# Altium schematic symbol library Infineon Transistor & Diode.SchLib: 376 symbols (part 7 of 10)
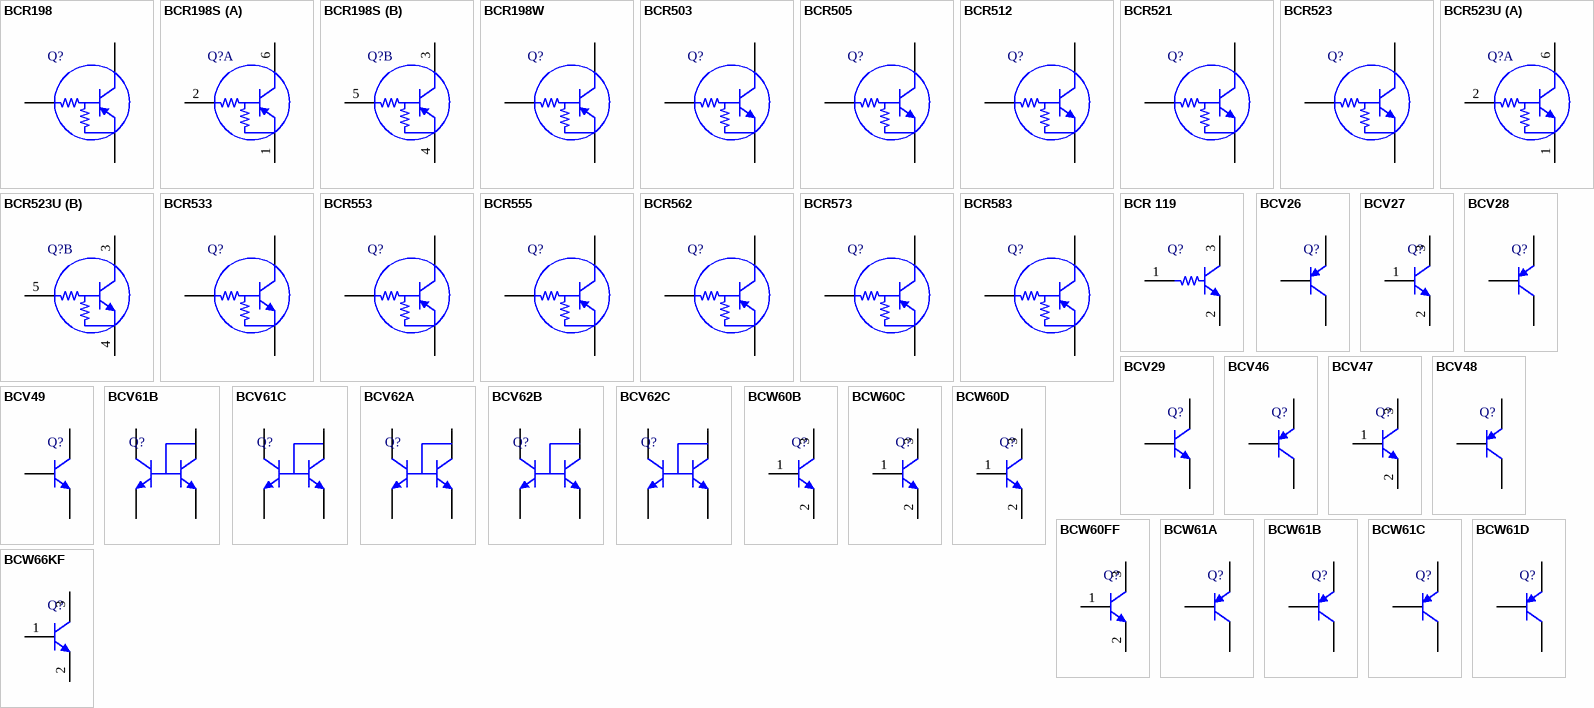
[diagram p16: symbols BCR198 to BCW66KF]

## BCV29
designator Q?
NPN Silicon Darlington Transistor, 30 V VCEO, 500 mA IC, SOT89, Reel, Green; Manufacturer: Infineon; PartNumber: BCV29; fT (typ): 150 MHz; Green: TRUE; hFE (min): 4000; IC: 100 mA; IC (max): 500 mA; ICBO (max): 10 uA; ICM (max): 800 mA; VCBO (max): 40 V; VCE: 5 V; VCEO (max): 30 V; VEBO (max): 10 V; PackageVersion: Apr-08; PackageReference: SOT89 (SC-62); PackageDescription: 3-Pin Small Outline Transistor Package, 4.5 x 2.5 mm Body, 1.5 mm Pitch; Packing: Reel; Polarity: NPN; Mounting Technology: Surface Mount; ComponentLink1Description: Manufacturer URL; ComponentLink1URL: http://www.infineon.com/; ComponentLink2Description: Datasheet; ComponentLink2URL: http://www.infineon.com/dgdl/bcv29_bcv49.pdf?folderId=db3a30431441fb5d011445c30f210183&fileId=db3a30431441fb5d011445c8b0d30186; ComponentLink3Description: Package Specification; ComponentLink3URL: http://www.infineon.com/dgdl/SOT89-Package_Overview.pdf?folderId=db3a30431936bc4b01195371b8363cff&fileId=db3a30431936bc4b0119537ed61d3d22
footprint INF-SOT89_SC-62_N (SOT89, 3-Leads, Body 4.5x2.5mm, Pitch 1.5mm, IPC Medium Density)
footprint INF-SOT89_SC-62_L (SOT89, 3-Leads, Body 4.5x2.5mm, Pitch 1.5mm, IPC High Density)
footprint INF-SOT89_SC-62_M (SOT89, 3-Leads, Body 4.5x2.5mm, Pitch 1.5mm, IPC Low Density)
pins: 1 B, 2 C, 3 E

## BCV46
designator Q?
PNP Silicon Darlington Transistor, 60 V VCEO, 500 mA IC, SOT23, Reel, Green; Manufacturer: Infineon; PartNumber: BCV46; fT (typ): 200 MHz; Green: TRUE; hFE (min): 2000; IC: 100 mA; IC (max): 500 mA; ICBO (max): 10 uA; ICM (max): 800 mA; VCBO (max): 80 V; VCE: 5 V; VCEO (max): 60 V; VEBO (max): 10 V; PackageVersion: Apr-08; PackageReference: SOT23; PackageDescription: 3-Pin Small Outline Transistor Package, 1.3 x 2.9 mm Body, 0.95 mm Pitch; Packing: Reel; Polarity: PNP; Mounting Technology: Surface Mount; ComponentLink1Description: Manufacturer URL; ComponentLink1URL: http://www.infineon.com/; ComponentLink2Description: Datasheet; ComponentLink2URL: http://www.infineon.com/dgdl/bcv26_bcv46.pdf?folderId=db3a30431441fb5d011445c30f210183&fileId=db3a30431441fb5d011445cddad90187; ComponentLink3Description: Package Specification; ComponentLink3URL: http://www.infineon.com/dgdl/SOT23-Package_Overview.pdf?folderId=db3a30431936bc4b0119532290053c66&fileId=db3a30431936bc4b0119533468123c85
footprint INF-SOT23_N (SOT23, 3-Leads, Body 2.9x1.3 mm, Pitch 0.95 mm, IPC Medium Density)
footprint INF-SOT23_L (SOT23, 3-Leads, Body 2.9x1.3 mm, Pitch 0.95 mm, IPC High Density)
footprint INF-SOT23_M (SOT23, 3-Leads, Body 2.9x1.3 mm, Pitch 0.95 mm, IPC Low Density)
pins: 1 B, 2 E, 3 C

## BCV47
designator Q?
NPN Silicon Darlington Transistor, 60 V VCEO, 500 mA IC, SOT23, Reel, Green; Manufacturer: Infineon; PartNumber: BCV47; fT (typ): 170 MHz; Green: TRUE; hFE (min): 2000; IC: 100 mA; IC (max): 500 mA; ICBO (max): 10 uA; ICM (max): 800 mA; VCBO (max): 80 V; VCE: 5 V; VCEO (max): 60 V; VEBO (max): 10 V; PackageVersion: Apr-08; PackageReference: SOT23; PackageDescription: 3-Pin Small Outline Transistor Package, 1.3 x 2.9 mm Body, 0.95 mm Pitch; Packing: Reel; Polarity: NPN; Mounting Technology: Surface Mount; ComponentLink1Description: Manufacturer URL; ComponentLink1URL: http://www.infineon.com/; ComponentLink2Description: Datasheet; ComponentLink2URL: http://www.infineon.com/dgdl/bcv27_bcv47.pdf?folderId=db3a30431441fb5d011445c30f210183&fileId=db3a30431441fb5d011445cf7c3b0188; ComponentLink3Description: Package Specification; ComponentLink3URL: http://www.infineon.com/dgdl/SOT23-Package_Overview.pdf?folderId=db3a30431936bc4b0119532290053c66&fileId=db3a30431936bc4b0119533468123c85
footprint INF-SOT23_N (SOT23, 3-Leads, Body 2.9x1.3 mm, Pitch 0.95 mm, IPC Medium Density)
footprint INF-SOT23_L (SOT23, 3-Leads, Body 2.9x1.3 mm, Pitch 0.95 mm, IPC High Density)
footprint INF-SOT23_M (SOT23, 3-Leads, Body 2.9x1.3 mm, Pitch 0.95 mm, IPC Low Density)
pins: 1 B, 2 E, 3 C

## BCV48
designator Q?
PNP Silicon Darlington Transistor, 60 V VCEO, 500 mA IC, SOT89, Reel, Green; Manufacturer: Infineon; PartNumber: BCV48; fT (typ): 200 MHz; Green: TRUE; hFE (min): 2000; IC: 100 mA; IC (max): 500 mA; ICBO (max): 10 uA; ICM (max): 800 mA; VCBO (max): 80 V; VCE: 5 V; VCEO (max): 60 V; VEBO (max): 10 V; PackageVersion: Apr-08; PackageReference: SOT89 (SC-62); PackageDescription: 3-Pin Small Outline Transistor Package, 4.5 x 2.5 mm Body, 1.5 mm Pitch; Packing: Reel; Polarity: PNP; Mounting Technology: Surface Mount; ComponentLink1Description: Manufacturer URL; ComponentLink1URL: http://www.infineon.com/; ComponentLink2Description: Datasheet; ComponentLink2URL: http://www.infineon.com/dgdl/bcv28_bcv48.pdf?folderId=db3a30431441fb5d011445c30f210183&fileId=db3a30431441fb5d011445c71a9d0185; ComponentLink3Description: Package Specification; ComponentLink3URL: http://www.infineon.com/dgdl/SOT89-Package_Overview.pdf?folderId=db3a30431936bc4b01195371b8363cff&fileId=db3a30431936bc4b0119537ed61d3d22
footprint INF-SOT89_SC-62_N (SOT89, 3-Leads, Body 4.5x2.5mm, Pitch 1.5mm, IPC Medium Density)
footprint INF-SOT89_SC-62_L (SOT89, 3-Leads, Body 4.5x2.5mm, Pitch 1.5mm, IPC High Density)
footprint INF-SOT89_SC-62_M (SOT89, 3-Leads, Body 4.5x2.5mm, Pitch 1.5mm, IPC Low Density)
pins: 1 B, 2 C, 3 E

## BCV49
designator Q?
NPN Silicon Darlington Transistor, 60 V VCEO, 500 mA IC, SOT89, Reel, Green; Manufacturer: Infineon; PartNumber: BCV49; fT (typ): 150 MHz; Green: TRUE; hFE (min): 2000; IC: 100 mA; IC (max): 500 mA; ICBO (max): 10 uA; ICM (max): 800 mA; VCBO (max): 80 V; VCE: 5 V; VCEO (max): 60 V; VEBO (max): 10 V; PackageVersion: Apr-08; PackageReference: SOT89 (SC-62); PackageDescription: 3-Pin Small Outline Transistor Package, 4.5 x 2.5 mm Body, 1.5 mm Pitch; Packing: Reel; Polarity: NPN; Mounting Technology: Surface Mount; ComponentLink1Description: Manufacturer URL; ComponentLink1URL: http://www.infineon.com/; ComponentLink2Description: Datasheet; ComponentLink2URL: http://www.infineon.com/dgdl/bcv29_bcv49.pdf?folderId=db3a30431441fb5d011445c30f210183&fileId=db3a30431441fb5d011445c8b0d30186; ComponentLink3Description: Package Specification; ComponentLink3URL: http://www.infineon.com/dgdl/SOT89-Package_Overview.pdf?folderId=db3a30431936bc4b01195371b8363cff&fileId=db3a30431936bc4b0119537ed61d3d22
footprint INF-SOT89_SC-62_N (SOT89, 3-Leads, Body 4.5x2.5mm, Pitch 1.5mm, IPC Medium Density)
footprint INF-SOT89_SC-62_L (SOT89, 3-Leads, Body 4.5x2.5mm, Pitch 1.5mm, IPC High Density)
footprint INF-SOT89_SC-62_M (SOT89, 3-Leads, Body 4.5x2.5mm, Pitch 1.5mm, IPC Low Density)
pins: 1 B, 2 C, 3 E

## BCV61B
designator Q?
NPN Silicon Double Transistor, 30 V VCEO, 100 mA IC, SOT143-4-1, Reel, Green; Manufacturer: Infineon; PartNumber: BCV61B; fT (typ): 250 MHz; Green: TRUE; IC: 2 mA; IC (max): 100 mA; ICBO (max): 15 nA; ICM (max): 200 mA; Ptot (max): 300 mW; VCBO (max): 30 V; VCE: 5 V; VEBO (max): 6 V; PackageReference: SOT143-4-1; PackageDescription: 4-Pin Small Outline Transistor Package, 1.3 x 2.9 mm Body; Packing: Reel; Polarity: NPN; VCE (max): 5 V; VCEO (max): 30 V; Mounting Technology: Surface Mount; ComponentLink1Description: Manufacturer URL; ComponentLink1URL: http://www.infineon.com/; ComponentLink2Description: Datasheet; ComponentLink2URL: http://www.infineon.com/dgdl/bcv61.pdf?folderId=db3a30431441fb5d0114498f7eab01ce&fileId=db3a30431441fb5d011449d8ff720246; ComponentLink3Description: Package Specification; ComponentLink3URL: http://www.infineon.com/dgdl/SOT143-Package_Overview.pdf?folderId=db3a30431936bc4b011952ce8b1b3bed&fileId=db3a30431936bc4b011952df42203c0c
footprint INF-SOT143-4-1_V (SOT143, 4-Leads, Body 2.9x1.3 mm)
pins: 1 C2, 2 C1, 3 E1, 4 E2

## BCV61C
designator Q?
NPN Silicon Double Transistor, 30 V VCEO, 100 mA IC, SOT143-4-1, Reel, Green; Manufacturer: Infineon; PartNumber: BCV61C; fT (typ): 250 MHz; Green: TRUE; IC: 2 mA; IC (max): 100 mA; ICBO (max): 15 nA; ICM (max): 200 mA; Ptot (max): 300 mW; VCBO (max): 30 V; VCE: 5 V; VEBO (max): 6 V; PackageReference: SOT143-4-1; PackageDescription: 4-Pin Small Outline Transistor Package, 1.3 x 2.9 mm Body; Supplier 1: Newark; Supplier Part Number 1: 25M7679; Supplier 2: Farnell; Supplier Part Number 2: 1056514; Supplier 3: Farnell; Supplier Part Number 3: 1056514RL; Packing: Reel; Polarity: NPN; VCE (max): 5 V; VCEO (max): 30 V; Mounting Technology: Surface Mount; ComponentLink1Description: Manufacturer URL; ComponentLink1URL: http://www.infineon.com/; ComponentLink2Description: Datasheet; ComponentLink2URL: http://www.infineon.com/dgdl/bcv61.pdf?folderId=db3a30431441fb5d0114498f7eab01ce&fileId=db3a30431441fb5d011449d8ff720246; ComponentLink3Description: Package Specification; ComponentLink3URL: http://www.infineon.com/dgdl/SOT143-Package_Overview.pdf?folderId=db3a30431936bc4b011952ce8b1b3bed&fileId=db3a30431936bc4b011952df42203c0c
footprint INF-SOT143-4-1_V (SOT143, 4-Leads, Body 2.9x1.3 mm)
pins: 1 C2, 2 C1, 3 E1, 4 E2

## BCV62A
designator Q?
PNP Silicon Double Transistor, 30 V VCEO, 100 mA IC, SOT143-4-1, Reel, Green; Manufacturer: Infineon; PartNumber: BCV62A; fT (typ): 250 MHz; Green: TRUE; IC: 2 mA; IC (max): 100 mA; ICBO (max): 15 nA; ICM (max): 200 mA; Ptot (max): 300 mW; VCBO (max): 30 V; VCE: 5 V; VEBO (max): 6 V; PackageReference: SOT143-4-1; PackageDescription: 4-Pin Small Outline Transistor Package, 1.3 x 2.9 mm Body; Packing: Reel; Polarity: PNP; VCE (max): 5 V; VCEO (max): 30 V; Mounting Technology: Surface Mount; ComponentLink1Description: Manufacturer URL; ComponentLink1URL: http://www.infineon.com/; ComponentLink2Description: Datasheet; ComponentLink2URL: http://www.infineon.com/dgdl/bcv62.pdf?folderId=db3a30431441fb5d0114498f7eab01ce&fileId=db3a30431441fb5d011449a5795f0230; ComponentLink3Description: Package Specification; ComponentLink3URL: http://www.infineon.com/dgdl/SOT143-Package_Overview.pdf?folderId=db3a30431936bc4b011952ce8b1b3bed&fileId=db3a30431936bc4b011952df42203c0c
footprint INF-SOT143-4-1_V (SOT143, 4-Leads, Body 2.9x1.3 mm)
pins: 1 C2, 2 C1, 3 E1, 4 E2

## BCV62B
designator Q?
PNP Silicon Double Transistor, 30 V VCEO, 100 mA IC, SOT143-4-1, Reel, Green; Manufacturer: Infineon; PartNumber: BCV62B; fT (typ): 250 MHz; Green: TRUE; IC: 2 mA; IC (max): 100 mA; ICBO (max): 15 nA; ICM (max): 200 mA; Ptot (max): 300 mW; VCBO (max): 30 V; VCE: 5 V; VEBO (max): 6 V; PackageReference: SOT143-4-1; PackageDescription: 4-Pin Small Outline Transistor Package, 1.3 x 2.9 mm Body; Packing: Reel; Polarity: PNP; VCE (max): 5 V; VCEO (max): 30 V; Mounting Technology: Surface Mount; ComponentLink1Description: Manufacturer URL; ComponentLink1URL: http://www.infineon.com/; ComponentLink2Description: Datasheet; ComponentLink2URL: http://www.infineon.com/dgdl/bcv62.pdf?folderId=db3a30431441fb5d0114498f7eab01ce&fileId=db3a30431441fb5d011449a5795f0230; ComponentLink3Description: Package Specification; ComponentLink3URL: http://www.infineon.com/dgdl/SOT143-Package_Overview.pdf?folderId=db3a30431936bc4b011952ce8b1b3bed&fileId=db3a30431936bc4b011952df42203c0c
footprint INF-SOT143-4-1_V (SOT143, 4-Leads, Body 2.9x1.3 mm)
pins: 1 C2, 2 C1, 3 E1, 4 E2

## BCV62C
designator Q?
PNP Silicon Double Transistor, 30 V VCEO, 100 mA IC, SOT143-4-1, Reel, Green; Manufacturer: Infineon; PartNumber: BCV62C; fT (typ): 250 MHz; Green: TRUE; IC: 100 mA; ICBO (max): 15 nA; ICM (max): 200 mA; Ptot (max): 300 mV; VCBO (max): 30 V; VCE: 5 V; VEBO (max): 6 V; PackageReference: SOT143-4-1; PackageDescription: 4-Pin Small Outline Transistor Package, 1.3 x 2.9 mm Body; Supplier 1: Newark; Supplier Part Number 1: 25M7681; Supplier 2: Farnell; Supplier Part Number 2: 1056515RL; Supplier 3: Farnell; Supplier Part Number 3: 1056515; IC (max): 100 mA; Packing: Reel; Polarity: PNP; VCE (max): 5 V; VCEO (max): 30 V; Mounting Technology: Surface Mount; ComponentLink1Description: Manufacturer URL; ComponentLink1URL: http://www.infineon.com/; ComponentLink2Description: Datasheet; ComponentLink2URL: http://www.infineon.com/dgdl/bcv62.pdf?folderId=db3a30431441fb5d0114498f7eab01ce&fileId=db3a30431441fb5d011449a5795f0230; ComponentLink3Description: Package Specification; ComponentLink3URL: http://www.infineon.com/dgdl/SOT143-Package_Overview.pdf?folderId=db3a30431936bc4b011952ce8b1b3bed&fileId=db3a30431936bc4b011952df42203c0c
footprint INF-SOT143-4-1_V (SOT143, 4-Leads, Body 2.9x1.3 mm)
pins: 1 C2, 2 C1, 3 E1, 4 E2

## BCW60B
designator Q?
NPN Silicon AF Transistor, 32 V VCEO, 100 mA IC, SOT23, Reel, Green; Manufacturer: Infineon; PartNumber: BCW60B; F (typ): 2 dB; fT (typ): 250 MHz; Green: TRUE; IBM (max): 200 mA; IC (max): 100 mA; ICBO (max): 20 nA; Ptot (max): 330 mW; VCBO (max): 32 V; VEBO (max): 6 V; PackageVersion: Apr-08; PackageReference: SOT23; PackageDescription: 3-Pin Small Outline Transistor Package, 1.3 x 2.9 mm Body, 0.95 mm Pitch; ICM (max): 200 mA; Packing: Reel; Polarity: NPN; VCEO (max): 32 V; Mounting Technology: Surface Mount; ComponentLink1Description: Manufacturer URL; ComponentLink1URL: http://www.infineon.com/; ComponentLink2Description: Datasheet; ComponentLink2URL: http://www.infineon.com/dgdl/bcw60_bcx70.pdf?folderId=db3a30431f848401011fcbf2ab4c04c4&fileId=db3a30432f91014f012fb516e6041665; ComponentLink3Description: Package Specification; ComponentLink3URL: http://www.infineon.com/dgdl/SOT23-Package_Overview.pdf?folderId=db3a30431936bc4b0119532290053c66&fileId=db3a30431936bc4b0119533468123c85
footprint INF-SOT23_N (SOT23, 3-Leads, Body 2.9x1.3 mm, Pitch 0.95 mm, IPC Medium Density)
footprint INF-SOT23_L (SOT23, 3-Leads, Body 2.9x1.3 mm, Pitch 0.95 mm, IPC High Density)
footprint INF-SOT23_M (SOT23, 3-Leads, Body 2.9x1.3 mm, Pitch 0.95 mm, IPC Low Density)
pins: 1 B, 2 E, 3 C

## BCW60C
designator Q?
NPN Silicon AF Transistor, 32 V VCEO, 100 mA IC, SOT23, Reel, Green; Manufacturer: Infineon; PartNumber: BCW60C; F (typ): 2 dB; fT (typ): 250 MHz; Green: TRUE; IBM (max): 200 mA; IC (max): 100 mA; ICBO (max): 20 nA; Ptot (max): 330 mW; VCBO (max): 32 V; VEBO (max): 6 V; PackageVersion: Apr-08; PackageReference: SOT23; PackageDescription: 3-Pin Small Outline Transistor Package, 1.3 x 2.9 mm Body, 0.95 mm Pitch; Supplier 1: Arrow; Supplier Part Number 1: SwUuOLYa2CQ6oFX7c6wWiErjUMZPc1hrDRDOGt4e6VM; ICM (max): 200 mA; Packing: Reel; Polarity: NPN; VCEO (max): 32 V; Mounting Technology: Surface Mount; ComponentLink1Description: Manufacturer URL; ComponentLink1URL: http://www.infineon.com/; ComponentLink2Description: Datasheet; ComponentLink2URL: http://www.infineon.com/dgdl/bcw60_bcx70.pdf?folderId=db3a30431f848401011fcbf2ab4c04c4&fileId=db3a30432f91014f012fb516e6041665; ComponentLink3Description: Package Specification; ComponentLink3URL: http://www.infineon.com/dgdl/SOT23-Package_Overview.pdf?folderId=db3a30431936bc4b0119532290053c66&fileId=db3a30431936bc4b0119533468123c85
footprint INF-SOT23_N (SOT23, 3-Leads, Body 2.9x1.3 mm, Pitch 0.95 mm, IPC Medium Density)
footprint INF-SOT23_L (SOT23, 3-Leads, Body 2.9x1.3 mm, Pitch 0.95 mm, IPC High Density)
footprint INF-SOT23_M (SOT23, 3-Leads, Body 2.9x1.3 mm, Pitch 0.95 mm, IPC Low Density)
pins: 1 B, 2 E, 3 C

## BCW60D
designator Q?
NPN Silicon AF Transistor, 32 V VCEO, 100 mA IC, SOT23, Reel, Green; Manufacturer: Infineon; PartNumber: BCW60D; F (typ): 2 dB; fT (typ): 250 MHz; Green: TRUE; IBM (max): 200 mA; IC (max): 100 mA; ICBO (max): 20 nA; Ptot (max): 330 mW; VCBO (max): 32 V; VEBO (max): 6 V; PackageVersion: Apr-08; PackageReference: SOT23; PackageDescription: 3-Pin Small Outline Transistor Package, 1.3 x 2.9 mm Body, 0.95 mm Pitch; ICM (max): 200 mA; Packing: Reel; Polarity: NPN; VCEO (max): 32 V; Mounting Technology: Surface Mount; ComponentLink1Description: Manufacturer URL; ComponentLink1URL: http://www.infineon.com/; ComponentLink2Description: Datasheet; ComponentLink2URL: http://www.infineon.com/dgdl/bcw60_bcx70.pdf?folderId=db3a30431f848401011fcbf2ab4c04c4&fileId=db3a30432f91014f012fb516e6041665; ComponentLink3Description: Package Specification; ComponentLink3URL: http://www.infineon.com/dgdl/SOT23-Package_Overview.pdf?folderId=db3a30431936bc4b0119532290053c66&fileId=db3a30431936bc4b0119533468123c85
footprint INF-SOT23_N (SOT23, 3-Leads, Body 2.9x1.3 mm, Pitch 0.95 mm, IPC Medium Density)
footprint INF-SOT23_L (SOT23, 3-Leads, Body 2.9x1.3 mm, Pitch 0.95 mm, IPC High Density)
footprint INF-SOT23_M (SOT23, 3-Leads, Body 2.9x1.3 mm, Pitch 0.95 mm, IPC Low Density)
pins: 1 B, 2 E, 3 C

## BCW60FF
designator Q?
NPN Silicon AF Transistor, 32 V VCEO, 100 mA IC, SOT23, Reel, Green; Manufacturer: Infineon; PartNumber: BCW60FF; F (typ): 1 dB; fT (typ): 250 MHz; Green: TRUE; IC: 2 mA; IC (max): 100 mA; ICBO (max): 20 nA; ICM (max): 200 mA; VCBO (max): 32 V; VCE: 5 V; VEBO (max): 6 V; PackageVersion: Apr-08; PackageReference: SOT23; PackageDescription: 3-Pin Small Outline Transistor Package, 1.3 x 2.9 mm Body, 0.95 mm Pitch; Supplier 1: Mouser; Supplier Part Number 1: N/A; Packing: Reel; Polarity: NPN; VCE (max): 5 V; VCEO (max): 32 V; Mounting Technology: Surface Mount; ComponentLink1Description: Manufacturer URL; ComponentLink1URL: http://www.infineon.com/; ComponentLink2Description: Datasheet; ComponentLink2URL: http://www.infineon.com/dgdl/bcw60_bcx70.pdf?folderId=db3a30431f848401011fcbf2ab4c04c4&fileId=db3a30432f91014f012fb516e6041665; ComponentLink3Description: Package Specification; ComponentLink3URL: http://www.infineon.com/dgdl/SOT23-Package_Overview.pdf?folderId=db3a30431936bc4b0119532290053c66&fileId=db3a30431936bc4b0119533468123c85
footprint INF-SOT23_N (SOT23, 3-Leads, Body 2.9x1.3 mm, Pitch 0.95 mm, IPC Medium Density)
footprint INF-SOT23_L (SOT23, 3-Leads, Body 2.9x1.3 mm, Pitch 0.95 mm, IPC High Density)
footprint INF-SOT23_M (SOT23, 3-Leads, Body 2.9x1.3 mm, Pitch 0.95 mm, IPC Low Density)
pins: 1 B, 2 E, 3 C

## BCW61A
designator Q?
PNP Silicon AF Transistor, 32 V VCEO, 100 mA IC, SOT23, Reel, Green; Manufacturer: Infineon; PartNumber: BCW61A; fT (typ): 250 MHz; Green: TRUE; IBM (max): 200 mA; IC (max): 100 mA; ICBO (max): 20 nA; Ptot (max): 330 mW; VCBO (max): 32 V; VEBO (max): 5 V; PackageVersion: Apr-08; PackageReference: SOT23; PackageDescription: 3-Pin Small Outline Transistor Package, 1.3 x 2.9 mm Body, 0.95 mm Pitch; Supplier 1: Mouser; Supplier Part Number 1: N/A; ICM (max): 200 mA; Packing: Reel; Polarity: PNP; VCEO (max): 32 V; Mounting Technology: Surface Mount; ComponentLink1Description: Manufacturer URL; ComponentLink1URL: http://www.infineon.com/; ComponentLink2Description: Datasheet; ComponentLink2URL: http://www.infineon.com/dgdl/bcw61_bcx71.pdf?folderId=db3a304314dca389011541d30fa21656&fileId=db3a304314dca3890115422f2cbc173b; ComponentLink3Description: Package Specification; ComponentLink3URL: http://www.infineon.com/dgdl/SOT23-Package_Overview.pdf?folderId=db3a30431936bc4b0119532290053c66&fileId=db3a30431936bc4b0119533468123c85
footprint INF-SOT23_N (SOT23, 3-Leads, Body 2.9x1.3 mm, Pitch 0.95 mm, IPC Medium Density)
footprint INF-SOT23_L (SOT23, 3-Leads, Body 2.9x1.3 mm, Pitch 0.95 mm, IPC High Density)
footprint INF-SOT23_M (SOT23, 3-Leads, Body 2.9x1.3 mm, Pitch 0.95 mm, IPC Low Density)
pins: 1 B, 2 E, 3 C

## BCW61B
designator Q?
PNP Silicon AF Transistor, 32 V VCEO, 100 mA IC, SOT23, Reel, Green; Manufacturer: Infineon; PartNumber: BCW61B; fT (typ): 250 MHz; Green: TRUE; IBM (max): 200 mA; IC (max): 100 mA; ICBO (max): 20 nA; Ptot (max): 330 mW; VCBO (max): 32 V; VEBO (max): 5 V; PackageVersion: Apr-08; PackageReference: SOT23; PackageDescription: 3-Pin Small Outline Transistor Package, 1.3 x 2.9 mm Body, 0.95 mm Pitch; ICM (max): 200 mA; Packing: Reel; Polarity: PNP; VCEO (max): 32 V; Mounting Technology: Surface Mount; ComponentLink1Description: Manufacturer URL; ComponentLink1URL: http://www.infineon.com/; ComponentLink2Description: Datasheet; ComponentLink2URL: http://www.infineon.com/dgdl/bcw61_bcx71.pdf?folderId=db3a304314dca389011541d30fa21656&fileId=db3a304314dca3890115422f2cbc173b; ComponentLink3Description: Package Specification; ComponentLink3URL: http://www.infineon.com/dgdl/SOT23-Package_Overview.pdf?folderId=db3a30431936bc4b0119532290053c66&fileId=db3a30431936bc4b0119533468123c85
footprint INF-SOT23_N (SOT23, 3-Leads, Body 2.9x1.3 mm, Pitch 0.95 mm, IPC Medium Density)
footprint INF-SOT23_L (SOT23, 3-Leads, Body 2.9x1.3 mm, Pitch 0.95 mm, IPC High Density)
footprint INF-SOT23_M (SOT23, 3-Leads, Body 2.9x1.3 mm, Pitch 0.95 mm, IPC Low Density)
pins: 1 B, 2 E, 3 C

## BCW61C
designator Q?
PNP Silicon AF Transistor, 32 V VCEO, 100 mA IC, SOT23, Reel, Green; Manufacturer: Infineon; PartNumber: BCW61C; fT (typ): 250 MHz; Green: TRUE; IBM (max): 200 mA; IC (max): 100 mA; ICBO (max): 20 nA; Ptot (max): 330 mW; VCBO (max): 32 V; VEBO (max): 5 V; PackageVersion: Apr-08; PackageReference: SOT23; PackageDescription: 3-Pin Small Outline Transistor Package, 1.3 x 2.9 mm Body, 0.95 mm Pitch; ICM (max): 200 mA; Packing: Reel; Polarity: PNP; VCEO (max): 32 V; Mounting Technology: Surface Mount; ComponentLink1Description: Manufacturer URL; ComponentLink1URL: http://www.infineon.com/; ComponentLink2Description: Datasheet; ComponentLink2URL: http://www.infineon.com/dgdl/bcw61_bcx71.pdf?folderId=db3a304314dca389011541d30fa21656&fileId=db3a304314dca3890115422f2cbc173b; ComponentLink3Description: Package Specification; ComponentLink3URL: http://www.infineon.com/dgdl/SOT23-Package_Overview.pdf?folderId=db3a30431936bc4b0119532290053c66&fileId=db3a30431936bc4b0119533468123c85
footprint INF-SOT23_N (SOT23, 3-Leads, Body 2.9x1.3 mm, Pitch 0.95 mm, IPC Medium Density)
footprint INF-SOT23_L (SOT23, 3-Leads, Body 2.9x1.3 mm, Pitch 0.95 mm, IPC High Density)
footprint INF-SOT23_M (SOT23, 3-Leads, Body 2.9x1.3 mm, Pitch 0.95 mm, IPC Low Density)
pins: 1 B, 2 E, 3 C

## BCW61D
designator Q?
PNP Silicon AF Transistor, 32 V VCEO, 100 mA IC, SOT23, Reel, Green; Manufacturer: Infineon; PartNumber: BCW61D; fT (typ): 250 MHz; Green: TRUE; IBM (max): 200 mA; IC (max): 100 mA; ICBO (max): 20 nA; Ptot (max): 330 mW; VCBO (max): 32 V; VEBO (max): 5 V; PackageVersion: Apr-08; PackageReference: SOT23; PackageDescription: 3-Pin Small Outline Transistor Package, 1.3 x 2.9 mm Body, 0.95 mm Pitch; ICM (max): 200 mA; Packing: Reel; Polarity: PNP; VCEO (max): 32 V; Mounting Technology: Surface Mount; ComponentLink1Description: Manufacturer URL; ComponentLink1URL: http://www.infineon.com/; ComponentLink2Description: Datasheet; ComponentLink2URL: http://www.infineon.com/dgdl/bcw61_bcx71.pdf?folderId=db3a304314dca389011541d30fa21656&fileId=db3a304314dca3890115422f2cbc173b; ComponentLink3Description: Package Specification; ComponentLink3URL: http://www.infineon.com/dgdl/SOT23-Package_Overview.pdf?folderId=db3a30431936bc4b0119532290053c66&fileId=db3a30431936bc4b0119533468123c85
footprint INF-SOT23_N (SOT23, 3-Leads, Body 2.9x1.3 mm, Pitch 0.95 mm, IPC Medium Density)
footprint INF-SOT23_L (SOT23, 3-Leads, Body 2.9x1.3 mm, Pitch 0.95 mm, IPC High Density)
footprint INF-SOT23_M (SOT23, 3-Leads, Body 2.9x1.3 mm, Pitch 0.95 mm, IPC Low Density)
pins: 1 B, 2 E, 3 C

## BCW66KF
designator Q?
NPN Silicon AF Transistor, 45 V VCEO, 800 mA IC, SOT23, Reel, Green; Manufacturer: Infineon; PartNumber: BCW66KF; fT (typ): 170 MHz; Green: TRUE; IBM (max): 200 mA; IC: 100 mA; IC (max): 800 mA; ICBO (max): 20 nA; ICM (max): 1,000 mA; Ptot (max): 500 mW; VCBO (max): 75 V; VCE: 1 V; VCEO (max): 45 V; VEBO (max): 5 V; PackageVersion: Apr-08; PackageReference: SOT23; PackageDescription: 3-Pin Small Outline Transistor Package, 1.3 x 2.9 mm Body, 0.95 mm Pitch; Supplier 1: Mouser; Supplier Part Number 1: N/A; Packing: Reel; Polarity: NPN; Mounting Technology: Surface Mount; ComponentLink1Description: Manufacturer URL; ComponentLink1URL: http://www.infineon.com/; ComponentLink2Description: Datasheet; ComponentLink2URL: http://www.infineon.com/dgdl/bcw66k.pdf?folderId=db3a304314dca389011545f4eb561884&fileId=db3a304314dca389011547504ebe1a07; ComponentLink3Description: Package Specification; ComponentLink3URL: http://www.infineon.com/dgdl/SOT23-Package_Overview.pdf?folderId=db3a30431936bc4b0119532290053c66&fileId=db3a30431936bc4b0119533468123c85
footprint INF-SOT23_N (SOT23, 3-Leads, Body 2.9x1.3 mm, Pitch 0.95 mm, IPC Medium Density)
footprint INF-SOT23_L (SOT23, 3-Leads, Body 2.9x1.3 mm, Pitch 0.95 mm, IPC High Density)
footprint INF-SOT23_M (SOT23, 3-Leads, Body 2.9x1.3 mm, Pitch 0.95 mm, IPC Low Density)
pins: 1 B, 2 E, 3 C

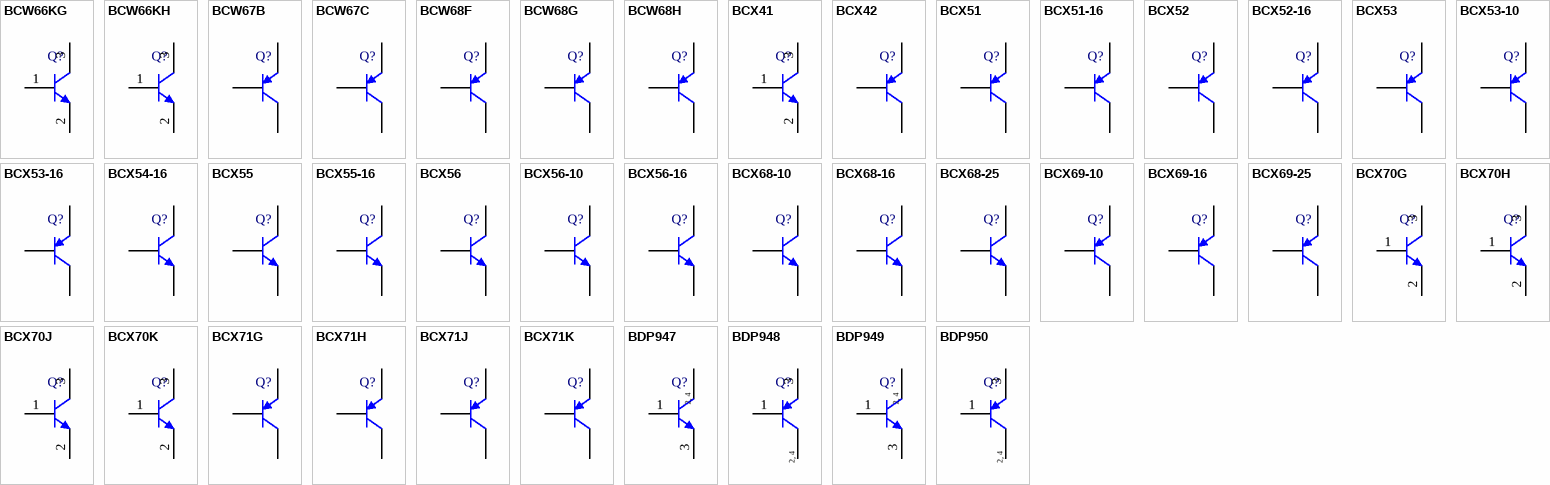
[diagram p7: symbols BCW66KG to BDP950]

## BCW66KG
designator Q?
NPN Silicon AF Transistor, 45 V VCEO, 800 mA IC, SOT23, Reel, Green; Manufacturer: Infineon; PartNumber: BCW66KG; fT (typ): 170 MHz; Green: TRUE; IBM (max): 200 mA; IC: 100 mA; IC (max): 800 mA; ICBO (max): 20 nA; ICM (max): 1,000 mA; Ptot (max): 500 mW; VCBO (max): 75 V; VCE: 1 V; VCEO (max): 45 V; VEBO (max): 5 V; PackageVersion: Apr-08; PackageReference: SOT23; PackageDescription: 3-Pin Small Outline Transistor Package, 1.3 x 2.9 mm Body, 0.95 mm Pitch; Supplier 1: Mouser; Supplier Part Number 1: N/A; Packing: Reel; Polarity: NPN; Mounting Technology: Surface Mount; ComponentLink1Description: Manufacturer URL; ComponentLink1URL: http://www.infineon.com/; ComponentLink2Description: Datasheet; ComponentLink2URL: http://www.infineon.com/dgdl/bcw66k.pdf?folderId=db3a304314dca389011545f4eb561884&fileId=db3a304314dca389011547504ebe1a07; ComponentLink3Description: Package Specification; ComponentLink3URL: http://www.infineon.com/dgdl/SOT23-Package_Overview.pdf?folderId=db3a30431936bc4b0119532290053c66&fileId=db3a30431936bc4b0119533468123c85
footprint INF-SOT23_N (SOT23, 3-Leads, Body 2.9x1.3 mm, Pitch 0.95 mm, IPC Medium Density)
footprint INF-SOT23_L (SOT23, 3-Leads, Body 2.9x1.3 mm, Pitch 0.95 mm, IPC High Density)
footprint INF-SOT23_M (SOT23, 3-Leads, Body 2.9x1.3 mm, Pitch 0.95 mm, IPC Low Density)
pins: 1 B, 2 E, 3 C

## BCW66KH
designator Q?
NPN Silicon AF Transistor, 45 V VCEO, 800 mA IC, SOT23, Reel, Green; Manufacturer: Infineon; PartNumber: BCW66KH; fT (typ): 170 MHz; Green: TRUE; IBM (max): 200 mA; IC: 100 mA; IC (max): 800 mA; ICBO (max): 20 nA; ICM (max): 1,000 mA; Ptot (max): 500 mW; VCBO (max): 75 V; VCE: 1 V; VCEO (max): 45 V; VEBO (max): 5 V; PackageVersion: Apr-08; PackageReference: SOT23; PackageDescription: 3-Pin Small Outline Transistor Package, 1.3 x 2.9 mm Body, 0.95 mm Pitch; Supplier 1: Mouser; Supplier Part Number 1: N/A; Packing: Reel; Polarity: NPN; Mounting Technology: Surface Mount; ComponentLink1Description: Manufacturer URL; ComponentLink1URL: http://www.infineon.com/; ComponentLink2Description: Datasheet; ComponentLink2URL: http://www.infineon.com/dgdl/bcw66k.pdf?folderId=db3a304314dca389011545f4eb561884&fileId=db3a304314dca389011547504ebe1a07; ComponentLink3Description: Package Specification; ComponentLink3URL: http://www.infineon.com/dgdl/SOT23-Package_Overview.pdf?folderId=db3a30431936bc4b0119532290053c66&fileId=db3a30431936bc4b0119533468123c85
footprint INF-SOT23_N (SOT23, 3-Leads, Body 2.9x1.3 mm, Pitch 0.95 mm, IPC Medium Density)
footprint INF-SOT23_L (SOT23, 3-Leads, Body 2.9x1.3 mm, Pitch 0.95 mm, IPC High Density)
footprint INF-SOT23_M (SOT23, 3-Leads, Body 2.9x1.3 mm, Pitch 0.95 mm, IPC Low Density)
pins: 1 B, 2 E, 3 C

## BCW67B
designator Q?
PNP Silicon AF Transistor, 32 V VCEO, 800 mA IC, SOT23, Reel, Green; Manufacturer: Infineon; PartNumber: BCW67B; fT (typ): 200 MHz; Green: TRUE; IC: 100 mA; IC (max): 800 mA; ICBO (max): 20 nA; ICM (max): 1,000 mA; Ptot (max): 330 mW; VCBO (max): 45 V; VCE: 1 V; VCEO (max): 32 V; VEBO (max): 5 V; PackageVersion: Apr-08; PackageReference: SOT23; PackageDescription: 3-Pin Small Outline Transistor Package, 1.3 x 2.9 mm Body, 0.95 mm Pitch; Supplier 1: Mouser; Supplier Part Number 1: N/A; Packing: Reel; Polarity: PNP; Mounting Technology: Surface Mount; ComponentLink1Description: Manufacturer URL; ComponentLink1URL: http://www.infineon.com/; ComponentLink2Description: Datasheet; ComponentLink2URL: http://www.infineon.com/dgdl/bcw67_bcw68.pdf?folderId=db3a304314dca38901155ffc06d51dc7&fileId=db3a3043156fd573011589ad64a2033e; ComponentLink3Description: Package Specification; ComponentLink3URL: http://www.infineon.com/dgdl/SOT23-Package_Overview.pdf?folderId=db3a30431936bc4b0119532290053c66&fileId=db3a30431936bc4b0119533468123c85
footprint INF-SOT23_N (SOT23, 3-Leads, Body 2.9x1.3 mm, Pitch 0.95 mm, IPC Medium Density)
footprint INF-SOT23_L (SOT23, 3-Leads, Body 2.9x1.3 mm, Pitch 0.95 mm, IPC High Density)
footprint INF-SOT23_M (SOT23, 3-Leads, Body 2.9x1.3 mm, Pitch 0.95 mm, IPC Low Density)
pins: 1 B, 2 E, 3 C

## BCW67C
designator Q?
PNP Silicon AF Transistor, 32 V VCEO, 800 mA IC, SOT23, Reel, Green; Manufacturer: Infineon; PartNumber: BCW67C; fT (typ): 200 MHz; Green: TRUE; IC: 100 mA; IC (max): 800 mA; ICBO (max): 20 nA; ICM (max): 1,000 mA; Ptot (max): 330 mW; VCBO (max): 45 V; VCE: 1 V; VCEO (max): 32 V; VEBO (max): 5 V; PackageVersion: Apr-08; PackageReference: SOT23; PackageDescription: 3-Pin Small Outline Transistor Package, 1.3 x 2.9 mm Body, 0.95 mm Pitch; Packing: Reel; Polarity: PNP; Mounting Technology: Surface Mount; ComponentLink1Description: Manufacturer URL; ComponentLink1URL: http://www.infineon.com/; ComponentLink2Description: Datasheet; ComponentLink2URL: http://www.infineon.com/dgdl/bcw67_bcw68.pdf?folderId=db3a304314dca38901155ffc06d51dc7&fileId=db3a3043156fd573011589ad64a2033e; ComponentLink3Description: Package Specification; ComponentLink3URL: http://www.infineon.com/dgdl/SOT23-Package_Overview.pdf?folderId=db3a30431936bc4b0119532290053c66&fileId=db3a30431936bc4b0119533468123c85
footprint INF-SOT23_N (SOT23, 3-Leads, Body 2.9x1.3 mm, Pitch 0.95 mm, IPC Medium Density)
footprint INF-SOT23_L (SOT23, 3-Leads, Body 2.9x1.3 mm, Pitch 0.95 mm, IPC High Density)
footprint INF-SOT23_M (SOT23, 3-Leads, Body 2.9x1.3 mm, Pitch 0.95 mm, IPC Low Density)
pins: 1 B, 2 E, 3 C

## BCW68F
designator Q?
PNP Silicon AF Transistor, 45 V VCEO, 800 mA IC, SOT23, Reel, Green; Manufacturer: Infineon; PartNumber: BCW68F; fT (typ): 200 MHz; Green: TRUE; IBM (max): 200 mA; IC: 100 mA; IC (max): 800 mA; ICBO (max): 20 nA; ICM (max): 1,000 mA; Ptot (max): 330 mW; VCBO (max): 60 V; VCE: 1 V; VCEO (max): 45 V; VEBO (max): 5 V; PackageVersion: Apr-08; PackageReference: SOT23; PackageDescription: 3-Pin Small Outline Transistor Package, 1.3 x 2.9 mm Body, 0.95 mm Pitch; Supplier 1: Mouser; Supplier Part Number 1: N/A; Packing: Reel; Polarity: PNP; Mounting Technology: Surface Mount; ComponentLink1Description: Manufacturer URL; ComponentLink1URL: http://www.infineon.com/; ComponentLink2Description: Datasheet; ComponentLink2URL: http://www.infineon.com/dgdl/bcw67_bcw68.pdf?folderId=db3a304314dca389011545f4eb561884&fileId=db3a304314dca3890115475f01a81a0d; ComponentLink3Description: Package Specification; ComponentLink3URL: http://www.infineon.com/dgdl/SOT23-Package_Overview.pdf?folderId=db3a30431936bc4b0119532290053c66&fileId=db3a30431936bc4b0119533468123c85
footprint INF-SOT23_N (SOT23, 3-Leads, Body 2.9x1.3 mm, Pitch 0.95 mm, IPC Medium Density)
footprint INF-SOT23_L (SOT23, 3-Leads, Body 2.9x1.3 mm, Pitch 0.95 mm, IPC High Density)
footprint INF-SOT23_M (SOT23, 3-Leads, Body 2.9x1.3 mm, Pitch 0.95 mm, IPC Low Density)
pins: 1 B, 2 E, 3 C

## BCW68G
designator Q?
PNP Silicon AF Transistor, 45 V VCEO, 800 mA IC, SOT23, Reel, Green; Manufacturer: Infineon; PartNumber: BCW68G; fT (typ): 200 MHz; Green: TRUE; IBM (max): 200 mA; IC: 100 mA; IC (max): 800 mA; ICBO (max): 20 nA; ICM (max): 1,000 mA; Ptot (max): 330 mW; VCBO (max): 60 V; VCE: 1 V; VCEO (max): 45 V; VEBO (max): 5 V; PackageVersion: Apr-08; PackageReference: SOT23; PackageDescription: 3-Pin Small Outline Transistor Package, 1.3 x 2.9 mm Body, 0.95 mm Pitch; Packing: Reel; Polarity: PNP; Mounting Technology: Surface Mount; ComponentLink1Description: Manufacturer URL; ComponentLink1URL: http://www.infineon.com/; ComponentLink2Description: Datasheet; ComponentLink2URL: http://www.infineon.com/dgdl/bcw67_bcw68.pdf?folderId=db3a304314dca389011545f4eb561884&fileId=db3a304314dca3890115475f01a81a0d; ComponentLink3Description: Package Specification; ComponentLink3URL: http://www.infineon.com/dgdl/SOT23-Package_Overview.pdf?folderId=db3a30431936bc4b0119532290053c66&fileId=db3a30431936bc4b0119533468123c85
footprint INF-SOT23_N (SOT23, 3-Leads, Body 2.9x1.3 mm, Pitch 0.95 mm, IPC Medium Density)
footprint INF-SOT23_L (SOT23, 3-Leads, Body 2.9x1.3 mm, Pitch 0.95 mm, IPC High Density)
footprint INF-SOT23_M (SOT23, 3-Leads, Body 2.9x1.3 mm, Pitch 0.95 mm, IPC Low Density)
pins: 1 B, 2 E, 3 C

## BCW68H
designator Q?
PNP Silicon AF Transistor, 45 V VCEO, 800 mA IC, SOT23, Reel, Green; Manufacturer: Infineon; PartNumber: BCW68H; fT (typ): 200 MHz; Green: TRUE; IBM (max): 200 mA; IC: 100 mA; IC (max): 800 mA; ICBO (max): 20 nA; ICM (max): 1,000 mA; Ptot (max): 330 mW; VCBO (max): 60 V; VCE: 1 V; VCEO (max): 45 V; VEBO (max): 5 V; PackageVersion: Apr-08; PackageReference: SOT23; PackageDescription: 3-Pin Small Outline Transistor Package, 1.3 x 2.9 mm Body, 0.95 mm Pitch; Supplier 1: Mouser; Supplier Part Number 1: N/A; Packing: Reel; Polarity: PNP; Mounting Technology: Surface Mount; ComponentLink1Description: Manufacturer URL; ComponentLink1URL: http://www.infineon.com/; ComponentLink2Description: Datasheet; ComponentLink2URL: http://www.infineon.com/dgdl/bcw67_bcw68.pdf?folderId=db3a304314dca389011545f4eb561884&fileId=db3a304314dca3890115475f01a81a0d; ComponentLink3Description: Package Specification; ComponentLink3URL: http://www.infineon.com/dgdl/SOT23-Package_Overview.pdf?folderId=db3a30431936bc4b0119532290053c66&fileId=db3a30431936bc4b0119533468123c85
footprint INF-SOT23_N (SOT23, 3-Leads, Body 2.9x1.3 mm, Pitch 0.95 mm, IPC Medium Density)
footprint INF-SOT23_L (SOT23, 3-Leads, Body 2.9x1.3 mm, Pitch 0.95 mm, IPC High Density)
footprint INF-SOT23_M (SOT23, 3-Leads, Body 2.9x1.3 mm, Pitch 0.95 mm, IPC Low Density)
pins: 1 B, 2 E, 3 C

## BCX41
designator Q?
NPN Silicon AF and Switching Transistor, 125 V VCEO, 800 mA IC, SOT23, Reel, Green; Manufacturer: Infineon; PartNumber: BCX41; fT (typ): 100 MHz; Green: TRUE; hFE (min): 63; IC: 100 mA; IC (max): 800 mA; ICBO (max): 100 nA; ICM (max): 1,000 mA; VCBO (max): 125 V; VCE: 1 V; VEBO (max): 5 V; PackageVersion: Apr-08; PackageReference: SOT23; PackageDescription: 3-Pin Small Outline Transistor Package, 1.3 x 2.9 mm Body, 0.95 mm Pitch; Supplier 1: Mouser; Supplier Part Number 1: N/A; Packing: Reel; Polarity: NPN; VCE (max): 1 V; VCEO (max): 125 V; Mounting Technology: Surface Mount; ComponentLink1Description: Manufacturer URL; ComponentLink1URL: http://www.infineon.com/; ComponentLink2Description: Datasheet; ComponentLink2URL: http://www.infineon.com/dgdl/bcx41.pdf?folderId=db3a30431441fb5d011449af3ad90232&fileId=db3a30431441fb5d011449afa8490233; ComponentLink3Description: Package Specification; ComponentLink3URL: http://www.infineon.com/dgdl/SOT23-Package_Overview.pdf?folderId=db3a30431936bc4b0119532290053c66&fileId=db3a30431936bc4b0119533468123c85
footprint INF-SOT23_N (SOT23, 3-Leads, Body 2.9x1.3 mm, Pitch 0.95 mm, IPC Medium Density)
footprint INF-SOT23_L (SOT23, 3-Leads, Body 2.9x1.3 mm, Pitch 0.95 mm, IPC High Density)
footprint INF-SOT23_M (SOT23, 3-Leads, Body 2.9x1.3 mm, Pitch 0.95 mm, IPC Low Density)
pins: 1 B, 2 E, 3 C

## BCX42
designator Q?
PNP Silicon AF and Switching Transistor, 125 V VCEO, 800 mA IC, SOT23, Reel, Green; Manufacturer: Infineon; PartNumber: BCX42; fT (typ): 150 MHz; Green: TRUE; hFE (min): 63; IC: 100 mA; IC (max): 800 mA; ICBO (max): 100 nA; ICM (max): 1,000 mA; VCBO (max): 125 V; VCE: 1 V; VEBO (max): 5 V; PackageVersion: Apr-08; PackageReference: SOT23; PackageDescription: 3-Pin Small Outline Transistor Package, 1.3 x 2.9 mm Body, 0.95 mm Pitch; Supplier 1: Mouser; Supplier Part Number 1: N/A; Packing: Reel; Polarity: PNP; VCE (max): 1 V; VCEO (max): 125 V; Mounting Technology: Surface Mount; ComponentLink1Description: Manufacturer URL; ComponentLink1URL: http://www.infineon.com/; ComponentLink2Description: Datasheet; ComponentLink2URL: http://www.infineon.com/dgdl/bcx42.pdf?folderId=db3a30431441fb5d011449af3ad90232&fileId=db3a30431441fb5d011449c6e48d023c; ComponentLink3Description: Package Specification; ComponentLink3URL: http://www.infineon.com/dgdl/SOT23-Package_Overview.pdf?folderId=db3a30431936bc4b0119532290053c66&fileId=db3a30431936bc4b0119533468123c85
footprint INF-SOT23_N (SOT23, 3-Leads, Body 2.9x1.3 mm, Pitch 0.95 mm, IPC Medium Density)
footprint INF-SOT23_L (SOT23, 3-Leads, Body 2.9x1.3 mm, Pitch 0.95 mm, IPC High Density)
footprint INF-SOT23_M (SOT23, 3-Leads, Body 2.9x1.3 mm, Pitch 0.95 mm, IPC Low Density)
pins: 1 B, 2 E, 3 C

## BCX51
designator Q?
PNP Silicon AF Transistor, 45 V VCEO, 1000 mA IC, SOT89, Reel, Green; Manufacturer: Infineon; PartNumber: BCX51; fT (typ): 125 MHz; Green: TRUE; IC: 1,000 mA; ICBO (max): 100 nA; ICM (max): 1,500 mA; Ptot (max): 2,000 mW; VCBO (max): 45 V; VCE: 2 V; VEBO (max): 5 V; PackageVersion: Apr-08; PackageReference: SOT89 (SC-62); PackageDescription: 3-Pin Small Outline Transistor Package, 4.5 x 2.5 mm Body, 1.5 mm Pitch; IC (max): 1,000 mA; Packing: Reel; Polarity: PNP; VCEO (max): 45 V; Mounting Technology: Surface Mount; ComponentLink1Description: Manufacturer URL; ComponentLink1URL: http://www.infineon.com/; ComponentLink2Description: Datasheet; ComponentLink2URL: http://www.infineon.com/dgdl/bcx51_bcx52_bcx53.pdf?folderId=db3a304314dca38901155ffc06d51dc7&fileId=db3a3043156fd573011589c08423034d; ComponentLink3Description: Package Specification; ComponentLink3URL: http://www.infineon.com/dgdl/SOT89-Package_Overview.pdf?folderId=db3a30431936bc4b01195371b8363cff&fileId=db3a30431936bc4b0119537ed61d3d22
footprint INF-SOT89_SC-62_N (SOT89, 3-Leads, Body 4.5x2.5mm, Pitch 1.5mm, IPC Medium Density)
footprint INF-SOT89_SC-62_L (SOT89, 3-Leads, Body 4.5x2.5mm, Pitch 1.5mm, IPC High Density)
footprint INF-SOT89_SC-62_M (SOT89, 3-Leads, Body 4.5x2.5mm, Pitch 1.5mm, IPC Low Density)
pins: 1 B, 2 C, 3 E

## BCX51-16
designator Q?
PNP Silicon AF Transistor, 45 V VCEO, 1000 mA IC, SOT89, Reel, Green; Manufacturer: Infineon; PartNumber: BCX51-16; fT (typ): 125 MHz; Green: TRUE; IC: 1,000 mA; ICBO (max): 100 nA; ICM (max): 1,500 mA; Ptot (max): 2,000 mW; VCBO (max): 45 V; VCE: 2 V; VEBO (max): 5 V; PackageVersion: Apr-08; PackageReference: SOT89 (SC-62); PackageDescription: 3-Pin Small Outline Transistor Package, 4.5 x 2.5 mm Body, 1.5 mm Pitch; IC (max): 1,000 mA; Packing: Reel; Polarity: PNP; VCEO (max): 45 V; Mounting Technology: Surface Mount; ComponentLink1Description: Manufacturer URL; ComponentLink1URL: http://www.infineon.com/; ComponentLink2Description: Datasheet; ComponentLink2URL: http://www.infineon.com/dgdl/bcx51_bcx52_bcx53.pdf?folderId=db3a304314dca38901155ffc06d51dc7&fileId=db3a3043156fd573011589c08423034d; ComponentLink3Description: Package Specification; ComponentLink3URL: http://www.infineon.com/dgdl/SOT89-Package_Overview.pdf?folderId=db3a30431936bc4b01195371b8363cff&fileId=db3a30431936bc4b0119537ed61d3d22
footprint INF-SOT89_SC-62_N (SOT89, 3-Leads, Body 4.5x2.5mm, Pitch 1.5mm, IPC Medium Density)
footprint INF-SOT89_SC-62_L (SOT89, 3-Leads, Body 4.5x2.5mm, Pitch 1.5mm, IPC High Density)
footprint INF-SOT89_SC-62_M (SOT89, 3-Leads, Body 4.5x2.5mm, Pitch 1.5mm, IPC Low Density)
pins: 1 B, 2 C, 3 E

## BCX52
designator Q?
PNP Silicon AF Transistor, 60 V VCEO, 1000 mA IC, SOT89, Reel, Green; Manufacturer: Infineon; PartNumber: BCX52; fT (typ): 125 MHz; Green: TRUE; IC: 1,000 mA; ICBO (max): 100 nA; ICM (max): 1,500 mA; Ptot (max): 2,000 mW; VCBO (max): 60 V; VCE: 2 V; VEBO (max): 5 V; PackageVersion: Apr-08; PackageReference: SOT89 (SC-62); PackageDescription: 3-Pin Small Outline Transistor Package, 4.5 x 2.5 mm Body, 1.5 mm Pitch; IC (max): 1,000 mA; Packing: Reel; Polarity: PNP; VCEO (max): 60 V; Mounting Technology: Surface Mount; ComponentLink1Description: Manufacturer URL; ComponentLink1URL: http://www.infineon.com/; ComponentLink2Description: Datasheet; ComponentLink2URL: http://www.infineon.com/dgdl/bcx51_bcx52_bcx53.pdf?folderId=db3a304314dca38901155ffc06d51dc7&fileId=db3a3043156fd573011589c08423034d; ComponentLink3Description: Package Specification; ComponentLink3URL: http://www.infineon.com/dgdl/SOT89-Package_Overview.pdf?folderId=db3a30431936bc4b01195371b8363cff&fileId=db3a30431936bc4b0119537ed61d3d22
footprint INF-SOT89_SC-62_N (SOT89, 3-Leads, Body 4.5x2.5mm, Pitch 1.5mm, IPC Medium Density)
footprint INF-SOT89_SC-62_L (SOT89, 3-Leads, Body 4.5x2.5mm, Pitch 1.5mm, IPC High Density)
footprint INF-SOT89_SC-62_M (SOT89, 3-Leads, Body 4.5x2.5mm, Pitch 1.5mm, IPC Low Density)
pins: 1 B, 2 C, 3 E

## BCX52-16
designator Q?
PNP Silicon AF Transistor, 60 V VCEO, 1000 mA IC, SOT89, Reel, Green; Manufacturer: Infineon; PartNumber: BCX52-16; fT (typ): 125 MHz; Green: TRUE; IC: 1,000 mA; ICBO (max): 100 nA; ICM (max): 1,500 mA; Ptot (max): 2,000 mW; VCBO (max): 60 V; VCE: 2 V; VEBO (max): 5 V; PackageVersion: Apr-08; PackageReference: SOT89 (SC-62); PackageDescription: 3-Pin Small Outline Transistor Package, 4.5 x 2.5 mm Body, 1.5 mm Pitch; IC (max): 1,000 mA; Packing: Reel; Polarity: PNP; VCEO (max): 60 V; Mounting Technology: Surface Mount; ComponentLink1Description: Manufacturer URL; ComponentLink1URL: http://www.infineon.com/; ComponentLink2Description: Datasheet; ComponentLink2URL: http://www.infineon.com/dgdl/bcx51_bcx52_bcx53.pdf?folderId=db3a304314dca38901155ffc06d51dc7&fileId=db3a3043156fd573011589c08423034d; ComponentLink3Description: Package Specification; ComponentLink3URL: http://www.infineon.com/dgdl/SOT89-Package_Overview.pdf?folderId=db3a30431936bc4b01195371b8363cff&fileId=db3a30431936bc4b0119537ed61d3d22
footprint INF-SOT89_SC-62_N (SOT89, 3-Leads, Body 4.5x2.5mm, Pitch 1.5mm, IPC Medium Density)
footprint INF-SOT89_SC-62_L (SOT89, 3-Leads, Body 4.5x2.5mm, Pitch 1.5mm, IPC High Density)
footprint INF-SOT89_SC-62_M (SOT89, 3-Leads, Body 4.5x2.5mm, Pitch 1.5mm, IPC Low Density)
pins: 1 B, 2 C, 3 E

## BCX53
designator Q?
PNP Silicon AF Transistor, 80 V VCEO, 1000 mA IC, SOT89, Reel, Green; Manufacturer: Infineon; PartNumber: BCX53; fT (typ): 125 MHz; Green: TRUE; IC: 1,000 mA; ICBO (max): 100 nA; ICM (max): 1,500 mA; Ptot (max): 2,000 mW; VCBO (max): 100 V; VCE: 2 V; VCEO (max): 80 V; VEBO (max): 5 V; PackageVersion: Apr-08; PackageReference: SOT89 (SC-62); PackageDescription: 3-Pin Small Outline Transistor Package, 4.5 x 2.5 mm Body, 1.5 mm Pitch; IC (max): 1,000 mA; Packing: Reel; Polarity: PNP; Mounting Technology: Surface Mount; ComponentLink1Description: Manufacturer URL; ComponentLink1URL: http://www.infineon.com/; ComponentLink2Description: Datasheet; ComponentLink2URL: http://www.infineon.com/dgdl/bcx51_bcx52_bcx53.pdf?folderId=db3a304314dca38901155ffc06d51dc7&fileId=db3a3043156fd573011589c08423034d; ComponentLink3Description: Package Specification; ComponentLink3URL: http://www.infineon.com/dgdl/SOT89-Package_Overview.pdf?folderId=db3a30431936bc4b01195371b8363cff&fileId=db3a30431936bc4b0119537ed61d3d22
footprint INF-SOT89_SC-62_N (SOT89, 3-Leads, Body 4.5x2.5mm, Pitch 1.5mm, IPC Medium Density)
footprint INF-SOT89_SC-62_L (SOT89, 3-Leads, Body 4.5x2.5mm, Pitch 1.5mm, IPC High Density)
footprint INF-SOT89_SC-62_M (SOT89, 3-Leads, Body 4.5x2.5mm, Pitch 1.5mm, IPC Low Density)
pins: 1 B, 2 C, 3 E

## BCX53-10
designator Q?
PNP Silicon AF Transistor, 80 V VCEO, 1000 mA IC, SOT89, Reel, Green; Manufacturer: Infineon; PartNumber: BCX53-10; fT (typ): 125 MHz; Green: TRUE; IC: 1,000 mA; ICBO (max): 100 nA; ICM (max): 1,500 mA; Ptot (max): 2,000 mW; VCBO (max): 100 V; VCE: 2 V; VCEO (max): 80 V; VEBO (max): 5 V; PackageVersion: Apr-08; PackageReference: SOT89 (SC-62); PackageDescription: 3-Pin Small Outline Transistor Package, 4.5 x 2.5 mm Body, 1.5 mm Pitch; IC (max): 1,000 mA; Packing: Reel; Polarity: PNP; Mounting Technology: Surface Mount; ComponentLink1Description: Manufacturer URL; ComponentLink1URL: http://www.infineon.com/; ComponentLink2Description: Datasheet; ComponentLink2URL: http://www.infineon.com/dgdl/bcx51_bcx52_bcx53.pdf?folderId=db3a304314dca38901155ffc06d51dc7&fileId=db3a3043156fd573011589c08423034d; ComponentLink3Description: Package Specification; ComponentLink3URL: http://www.infineon.com/dgdl/SOT89-Package_Overview.pdf?folderId=db3a30431936bc4b01195371b8363cff&fileId=db3a30431936bc4b0119537ed61d3d22
footprint INF-SOT89_SC-62_N (SOT89, 3-Leads, Body 4.5x2.5mm, Pitch 1.5mm, IPC Medium Density)
footprint INF-SOT89_SC-62_L (SOT89, 3-Leads, Body 4.5x2.5mm, Pitch 1.5mm, IPC High Density)
footprint INF-SOT89_SC-62_M (SOT89, 3-Leads, Body 4.5x2.5mm, Pitch 1.5mm, IPC Low Density)
pins: 1 B, 2 C, 3 E

## BCX53-16
designator Q?
PNP Silicon AF Transistor, 80 V VCEO, 1000 mA IC, SOT89, Reel, Green; Manufacturer: Infineon; PartNumber: BCX53-16; fT (typ): 125 MHz; Green: TRUE; IC: 1,000 mA; ICBO (max): 100 nA; ICM (max): 1,500 mA; Ptot (max): 2,000 mW; VCBO (max): 100 V; VCE: 2 V; VCEO (max): 80 V; VEBO (max): 5 V; PackageVersion: Apr-08; PackageReference: SOT89 (SC-62); PackageDescription: 3-Pin Small Outline Transistor Package, 4.5 x 2.5 mm Body, 1.5 mm Pitch; IC (max): 1,000 mA; Packing: Reel; Polarity: PNP; Mounting Technology: Surface Mount; ComponentLink1Description: Manufacturer URL; ComponentLink1URL: http://www.infineon.com/; ComponentLink2Description: Datasheet; ComponentLink2URL: http://www.infineon.com/dgdl/bcx51_bcx52_bcx53.pdf?folderId=db3a304314dca38901155ffc06d51dc7&fileId=db3a3043156fd573011589c08423034d; ComponentLink3Description: Package Specification; ComponentLink3URL: http://www.infineon.com/dgdl/SOT89-Package_Overview.pdf?folderId=db3a30431936bc4b01195371b8363cff&fileId=db3a30431936bc4b0119537ed61d3d22
footprint INF-SOT89_SC-62_N (SOT89, 3-Leads, Body 4.5x2.5mm, Pitch 1.5mm, IPC Medium Density)
footprint INF-SOT89_SC-62_L (SOT89, 3-Leads, Body 4.5x2.5mm, Pitch 1.5mm, IPC High Density)
footprint INF-SOT89_SC-62_M (SOT89, 3-Leads, Body 4.5x2.5mm, Pitch 1.5mm, IPC Low Density)
pins: 1 B, 2 C, 3 E

## BCX54-16
designator Q?
NPN Silicon AF Transistor, 45 V VCEO, 1000 mA IC, SOT89, Reel, Green; Manufacturer: Infineon; PartNumber: BCX54-16; fT (typ): 100 MHz; Green: TRUE; IC: 1,000 mA; ICBO (max): 100 nA; ICM (max): 1,500 mA; Ptot (max): 2,000 mW; VCBO (max): 45 V; VCE: 2 V; VEBO (max): 5 V; PackageVersion: Apr-08; PackageReference: SOT89 (SC-62); PackageDescription: 3-Pin Small Outline Transistor Package, 4.5 x 2.5 mm Body, 1.5 mm Pitch; IC (max): 1,000 mA; Packing: Reel; Polarity: NPN; VCEO (max): 45 V; Mounting Technology: Surface Mount; ComponentLink1Description: Manufacturer URL; ComponentLink1URL: http://www.infineon.com/; ComponentLink2Description: Datasheet; ComponentLink2URL: http://www.infineon.com/dgdl/bcx54_bcx55_bcx56.pdf?folderId=db3a304314dca38901155ffc06d51dc7&fileId=db3a3043156fd573011589d20fda0368; ComponentLink3Description: Package Specification; ComponentLink3URL: http://www.infineon.com/dgdl/SOT89-Package_Overview.pdf?folderId=db3a30431936bc4b01195371b8363cff&fileId=db3a30431936bc4b0119537ed61d3d22
footprint INF-SOT89_SC-62_N (SOT89, 3-Leads, Body 4.5x2.5mm, Pitch 1.5mm, IPC Medium Density)
footprint INF-SOT89_SC-62_L (SOT89, 3-Leads, Body 4.5x2.5mm, Pitch 1.5mm, IPC High Density)
footprint INF-SOT89_SC-62_M (SOT89, 3-Leads, Body 4.5x2.5mm, Pitch 1.5mm, IPC Low Density)
pins: 1 B, 2 C, 3 E

## BCX55
designator Q?
NPN Silicon AF Transistor, 60 V VCEO, 1000 mA IC, SOT89, Reel, Green; Manufacturer: Infineon; PartNumber: BCX55; fT (typ): 100 MHz; Green: TRUE; IC: 1,000 mA; ICBO (max): 100 nA; ICM (max): 1,500 mA; Ptot (max): 2,000 mW; VCBO (max): 60 V; VCE: 2 V; VEBO (max): 5 V; PackageVersion: Apr-08; PackageReference: SOT89 (SC-62); PackageDescription: 3-Pin Small Outline Transistor Package, 4.5 x 2.5 mm Body, 1.5 mm Pitch; IC (max): 1,000 mA; Packing: Reel; Polarity: NPN; VCEO (max): 60 V; Mounting Technology: Surface Mount; ComponentLink1Description: Manufacturer URL; ComponentLink1URL: http://www.infineon.com/; ComponentLink2Description: Datasheet; ComponentLink2URL: http://www.infineon.com/dgdl/bcx54_bcx55_bcx56.pdf?folderId=db3a304314dca38901155ffc06d51dc7&fileId=db3a3043156fd573011589d20fda0368; ComponentLink3Description: Package Specification; ComponentLink3URL: http://www.infineon.com/dgdl/SOT89-Package_Overview.pdf?folderId=db3a30431936bc4b01195371b8363cff&fileId=db3a30431936bc4b0119537ed61d3d22
footprint INF-SOT89_SC-62_N (SOT89, 3-Leads, Body 4.5x2.5mm, Pitch 1.5mm, IPC Medium Density)
footprint INF-SOT89_SC-62_L (SOT89, 3-Leads, Body 4.5x2.5mm, Pitch 1.5mm, IPC High Density)
footprint INF-SOT89_SC-62_M (SOT89, 3-Leads, Body 4.5x2.5mm, Pitch 1.5mm, IPC Low Density)
pins: 1 B, 2 C, 3 E

## BCX55-16
designator Q?
NPN Silicon AF Transistor, 60 V VCEO, 1000 mA IC, SOT89, Reel, Green; Manufacturer: Infineon; PartNumber: BCX55-16; fT (typ): 100 MHz; Green: TRUE; IC: 1,000 mA; ICBO (max): 100 nA; ICM (max): 1,500 mA; Ptot (max): 2,000 mW; VCBO (max): 60 V; VCE: 2 V; VEBO (max): 5 V; PackageVersion: Apr-08; PackageReference: SOT89 (SC-62); PackageDescription: 3-Pin Small Outline Transistor Package, 4.5 x 2.5 mm Body, 1.5 mm Pitch; IC (max): 1,000 mA; Packing: Reel; Polarity: NPN; VCEO (max): 60 V; Mounting Technology: Surface Mount; ComponentLink1Description: Manufacturer URL; ComponentLink1URL: http://www.infineon.com/; ComponentLink2Description: Datasheet; ComponentLink2URL: http://www.infineon.com/dgdl/bcx54_bcx55_bcx56.pdf?folderId=db3a304314dca38901155ffc06d51dc7&fileId=db3a3043156fd573011589d20fda0368; ComponentLink3Description: Package Specification; ComponentLink3URL: http://www.infineon.com/dgdl/SOT89-Package_Overview.pdf?folderId=db3a30431936bc4b01195371b8363cff&fileId=db3a30431936bc4b0119537ed61d3d22
footprint INF-SOT89_SC-62_N (SOT89, 3-Leads, Body 4.5x2.5mm, Pitch 1.5mm, IPC Medium Density)
footprint INF-SOT89_SC-62_L (SOT89, 3-Leads, Body 4.5x2.5mm, Pitch 1.5mm, IPC High Density)
footprint INF-SOT89_SC-62_M (SOT89, 3-Leads, Body 4.5x2.5mm, Pitch 1.5mm, IPC Low Density)
pins: 1 B, 2 C, 3 E